# EAGLE library part 691413720018 (library Wurth_Elektronik_Electromechanic_Terminal_Blocks_Connectors_rev16b)
WR-TBL Terminal block - serie 413 5.0mm - Spring clamp/Screw less - 45° entry - 18p Code:Con_TBL_Screwless_5.00_6914137200xxB_691413720018 Created 2014-12-22, aslant tao 2014 (C) Würth Elektronik
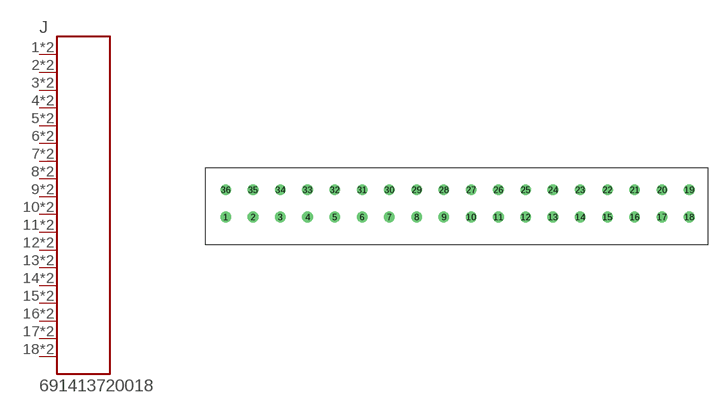
[diagram p265: symbol with the pads of 691413720018; footprint 691413720018]

Designator prefix J

## 691413720018  [691413720018]
1  1  pas
2  2  pas
3  3  pas
4  4  pas
5  5  pas
6  6  pas
7  7  pas
8  8  pas
9  9  pas
10  10  pas
11  11  pas
12  12  pas
13  13  pas
14  14  pas
15  15  pas
16  16  pas
17  17  pas
18  18  pas
19  18  pas
20  17  pas
21  16  pas
22  15  pas
23  14  pas
24  13  pas
25  12  pas
26  11  pas
27  10  pas
28  9  pas
29  8  pas
30  7  pas
31  6  pas
32  5  pas
33  4  pas
34  3  pas
35  2  pas
36  1  pas

## Footprint 691413720018 (pad centres in mm)
WR-TBL Serie 413 - 5.0mm Screwless 45° Entry - 3 mm2 Wires, 18 Pins
drill 1.3: 1 -10,-2.5; 2 -5,-2.5; 3 0,-2.5; 4 5,-2.5; 5 10,-2.5; 6 15,-2.5; 7 20,-2.5; 8 25,-2.5; 9 30,-2.5; 10 35,-2.5; 11 40,-2.5; 12 45,-2.5; 13 50,-2.5; 14 55,-2.5; 15 60,-2.5; 16 65,-2.5; 17 70,-2.5; 18 75,-2.5; 19 75,2.5; 20 70,2.5; 21 65,2.5; 22 60,2.5; 23 55,2.5; 24 50,2.5; 25 45,2.5; 26 40,2.5; 27 35,2.5; 28 30,2.5; 29 25,2.5; 30 20,2.5; 31 15,2.5; 32 10,2.5; 33 5,2.5; 34 0,2.5; 35 -5,2.5; 36 -10,2.5